# Altium schematic symbol library COM_Express.SchLib: 1 symbol
Pins are listed as number, name and electrical type; pins without a type are passive.

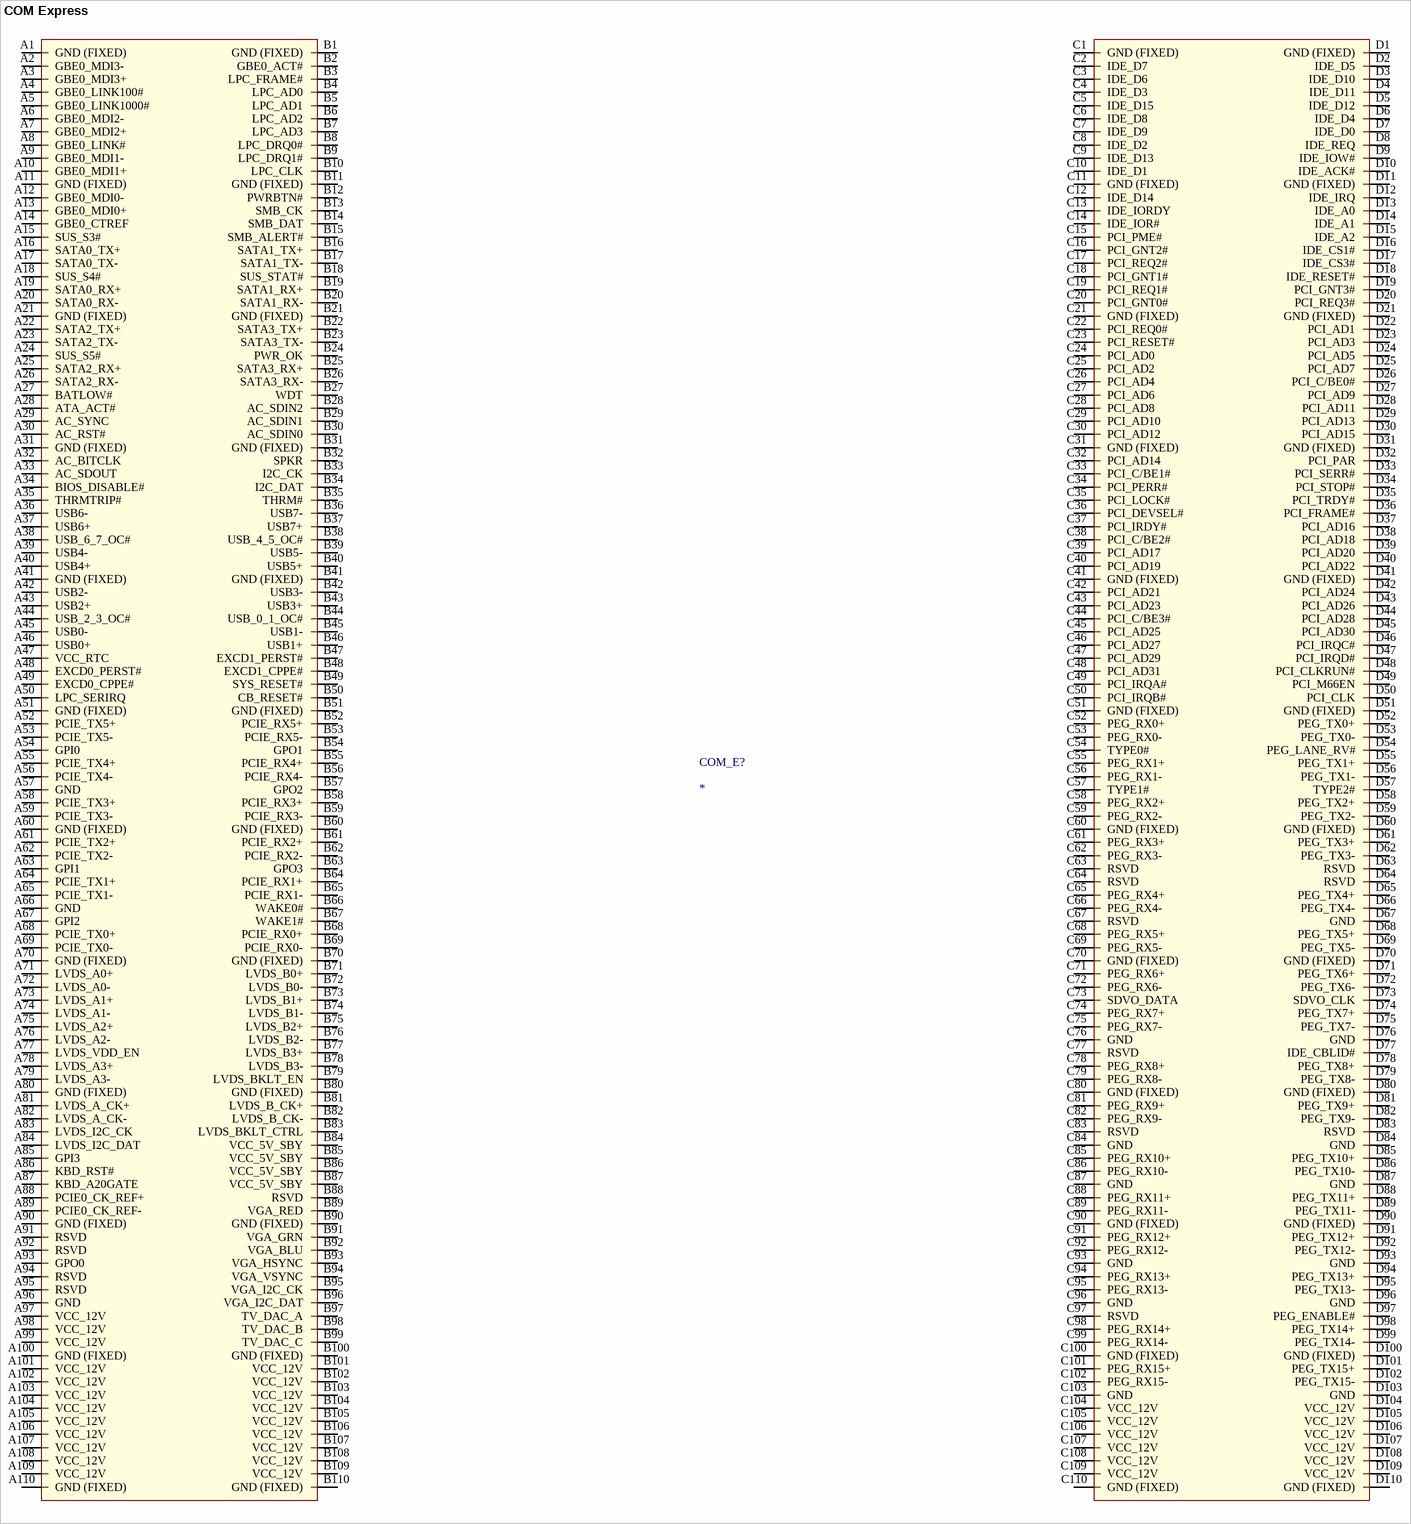
[diagram p0: symbol COM Express]

## COM Express
designator COM_E?
footprint COM Express
pins: A1 GND (FIXED), A2 GBE0_MDI3-, A3 GBE0_MDI3+, A4 GBE0_LINK100#, A5 GBE0_LINK1000#, A6 GBE0_MDI2-, A7 GBE0_MDI2+, A8 GBE0_LINK#, A9 GBE0_MDI1-, A10 GBE0_MDI1+, A11 GND (FIXED), A12 GBE0_MDI0-, A13 GBE0_MDI0+, A14 GBE0_CTREF, A15 SUS_S3#, A16 SATA0_TX+, A17 SATA0_TX-, A18 SUS_S4#, A19 SATA0_RX+, A20 SATA0_RX-, A21 GND (FIXED), A22 SATA2_TX+, A23 SATA2_TX-, A24 SUS_S5#, A25 SATA2_RX+, A26 SATA2_RX-, A27 BATLOW#, A28 ATA_ACT#, A29 AC_SYNC, A30 AC_RST#, A31 GND (FIXED), A32 AC_BITCLK, A33 AC_SDOUT, A34 BIOS_DISABLE#, A35 THRMTRIP#, A36 USB6-, A37 USB6+, A38 USB_6_7_OC#, A39 USB4-, A40 USB4+, A41 GND (FIXED), A42 USB2-, A43 USB2+, A44 USB_2_3_OC#, A45 USB0-, A46 USB0+, A47 VCC_RTC, A48 EXCD0_PERST#, A49 EXCD0_CPPE#, A50 LPC_SERIRQ, A51 GND (FIXED), A52 PCIE_TX5+, A53 PCIE_TX5-, A54 GPI0, A55 PCIE_TX4+, A56 PCIE_TX4-, A57 GND, A58 PCIE_TX3+, A59 PCIE_TX3-, A60 GND (FIXED), A61 PCIE_TX2+, A62 PCIE_TX2-, A63 GPI1, A64 PCIE_TX1+, A65 PCIE_TX1-, A66 GND, A67 GPI2, A68 PCIE_TX0+, A69 PCIE_TX0-, A70 GND (FIXED), A71 LVDS_A0+, A72 LVDS_A0-, A73 LVDS_A1+, A74 LVDS_A1-, A75 LVDS_A2+, A76 LVDS_A2-, A77 LVDS_VDD_EN, A78 LVDS_A3+, A79 LVDS_A3-, A80 GND (FIXED), A81 LVDS_A_CK+, A82 LVDS_A_CK-, A83 LVDS_I2C_CK, A84 LVDS_I2C_DAT, A85 GPI3, A86 KBD_RST#, A87 KBD_A20GATE, A88 PCIE0_CK_REF+, A89 PCIE0_CK_REF-, A90 GND (FIXED), A91 RSVD, A92 RSVD, A93 GPO0, A94 RSVD, A95 RSVD, A96 GND, A97 VCC_12V, A98 VCC_12V, A99 VCC_12V, A100 GND (FIXED), A101 VCC_12V, A102 VCC_12V, A103 VCC_12V, A104 VCC_12V, A105 VCC_12V, A106 VCC_12V, A107 VCC_12V, A108 VCC_12V, A109 VCC_12V, A110 GND (FIXED), B1 GND (FIXED), B2 GBE0_ACT#, B3 LPC_FRAME#, B4 LPC_AD0, B5 LPC_AD1, B6 LPC_AD2, B7 LPC_AD3, B8 LPC_DRQ0#, B9 LPC_DRQ1#, B10 LPC_CLK, B11 GND (FIXED), B12 PWRBTN#, B13 SMB_CK, B14 SMB_DAT, B15 SMB_ALERT#, B16 SATA1_TX+, B17 SATA1_TX-, B18 SUS_STAT#, B19 SATA1_RX+, B20 SATA1_RX-, B21 GND (FIXED), B22 SATA3_TX+, B23 SATA3_TX-, B24 PWR_OK, B25 SATA3_RX+, B26 SATA3_RX-, B27 WDT, B28 AC_SDIN2, B29 AC_SDIN1, B30 AC_SDIN0, B31 GND (FIXED), B32 SPKR, B33 I2C_CK, B34 I2C_DAT, B35 THRM#, B36 USB7-, B37 USB7+, B38 USB_4_5_OC#, B39 USB5-, B40 USB5+, B41 GND (FIXED), B42 USB3-, B43 USB3+, B44 USB_0_1_OC#, B45 USB1-, B46 USB1+, B47 EXCD1_PERST#, B48 EXCD1_CPPE#, B49 SYS_RESET#, B50 CB_RESET#, B51 GND (FIXED), B52 PCIE_RX5+, B53 PCIE_RX5-, B54 GPO1, B55 PCIE_RX4+, B56 PCIE_RX4-, B57 GPO2, B58 PCIE_RX3+, B59 PCIE_RX3-, B60 GND (FIXED), B61 PCIE_RX2+, B62 PCIE_RX2-, B63 GPO3, B64 PCIE_RX1+, B65 PCIE_RX1-, B66 WAKE0#, B67 WAKE1#, B68 PCIE_RX0+, B69 PCIE_RX0-, B70 GND (FIXED), B71 LVDS_B0+, B72 LVDS_B0-, B73 LVDS_B1+, B74 LVDS_B1-, B75 LVDS_B2+, B76 LVDS_B2-, B77 LVDS_B3+, B78 LVDS_B3-, B79 LVDS_BKLT_EN, B80 GND (FIXED), B81 LVDS_B_CK+, B82 LVDS_B_CK-, B83 LVDS_BKLT_CTRL, B84 VCC_5V_SBY, B85 VCC_5V_SBY, B86 VCC_5V_SBY, B87 VCC_5V_SBY, B88 RSVD, B89 VGA_RED, B90 GND (FIXED), B91 VGA_GRN, B92 VGA_BLU, B93 VGA_HSYNC, B94 VGA_VSYNC, B95 VGA_I2C_CK, B96 VGA_I2C_DAT, B97 TV_DAC_A, B98 TV_DAC_B, B99 TV_DAC_C, B100 GND (FIXED), B101 VCC_12V, B102 VCC_12V, B103 VCC_12V, B104 VCC_12V, B105 VCC_12V, B106 VCC_12V, B107 VCC_12V, B108 VCC_12V, B109 VCC_12V, B110 GND (FIXED), C1 GND (FIXED), C2 IDE_D7, C3 IDE_D6, C4 IDE_D3, C5 IDE_D15, C6 IDE_D8, C7 IDE_D9, C8 IDE_D2, C9 IDE_D13, C10 IDE_D1, C11 GND (FIXED), C12 IDE_D14, C13 IDE_IORDY, C14 IDE_IOR#, C15 PCI_PME#, C16 PCI_GNT2#, C17 PCI_REQ2#, C18 PCI_GNT1#, C19 PCI_REQ1#, C20 PCI_GNT0#, C21 GND (FIXED), C22 PCI_REQ0#, C23 PCI_RESET#, C24 PCI_AD0, C25 PCI_AD2, C26 PCI_AD4, C27 PCI_AD6, C28 PCI_AD8, C29 PCI_AD10, C30 PCI_AD12, C31 GND (FIXED), C32 PCI_AD14, C33 PCI_C/BE1#, C34 PCI_PERR#, C35 PCI_LOCK#, C36 PCI_DEVSEL#, C37 PCI_IRDY#, C38 PCI_C/BE2#, C39 PCI_AD17, C40 PCI_AD19, C41 GND (FIXED), C42 PCI_AD21, C43 PCI_AD23, C44 PCI_C/BE3#, C45 PCI_AD25, C46 PCI_AD27, C47 PCI_AD29, C48 PCI_AD31, C49 PCI_IRQA#, C50 PCI_IRQB#, C51 GND (FIXED), C52 PEG_RX0+, C53 PEG_RX0-, C54 TYPE0#, C55 PEG_RX1+, C56 PEG_RX1-, C57 TYPE1#, C58 PEG_RX2+, C59 PEG_RX2-, C60 GND (FIXED), C61 PEG_RX3+, C62 PEG_RX3-, C63 RSVD, C64 RSVD, C65 PEG_RX4+, C66 PEG_RX4-, C67 RSVD, C68 PEG_RX5+, C69 PEG_RX5-, C70 GND (FIXED), C71 PEG_RX6+, C72 PEG_RX6-, C73 SDVO_DATA, C74 PEG_RX7+, C75 PEG_RX7-, C76 GND, C77 RSVD, C78 PEG_RX8+, C79 PEG_RX8-, C80 GND (FIXED), C81 PEG_RX9+, C82 PEG_RX9-, C83 RSVD, C84 GND, C85 PEG_RX10+, C86 PEG_RX10-, C87 GND, C88 PEG_RX11+, C89 PEG_RX11-, C90 GND (FIXED), C91 PEG_RX12+, C92 PEG_RX12-, C93 GND, C94 PEG_RX13+, C95 PEG_RX13-, C96 GND, C97 RSVD, C98 PEG_RX14+, C99 PEG_RX14-, C100 GND (FIXED), C101 PEG_RX15+, C102 PEG_RX15-, C103 GND, C104 VCC_12V, C105 VCC_12V, C106 VCC_12V, C107 VCC_12V, C108 VCC_12V, C109 VCC_12V, C110 GND (FIXED), D1 GND (FIXED), D2 IDE_D5, D3 IDE_D10, D4 IDE_D11, D5 IDE_D12, D6 IDE_D4, D7 IDE_D0, D8 IDE_REQ, D9 IDE_IOW#, D10 IDE_ACK#, D11 GND (FIXED), D12 IDE_IRQ, D13 IDE_A0, D14 IDE_A1, D15 IDE_A2, D16 IDE_CS1#, D17 IDE_CS3#, D18 IDE_RESET#, D19 PCI_GNT3#, D20 PCI_REQ3#, D21 GND (FIXED), D22 PCI_AD1, D23 PCI_AD3, D24 PCI_AD5, D25 PCI_AD7, D26 PCI_C/BE0#, D27 PCI_AD9, D28 PCI_AD11, D29 PCI_AD13, D30 PCI_AD15, D31 GND (FIXED), D32 PCI_PAR, D33 PCI_SERR#, D34 PCI_STOP#, D35 PCI_TRDY#, D36 PCI_FRAME#, D37 PCI_AD16, D38 PCI_AD18, D39 PCI_AD20, D40 PCI_AD22, D41 GND (FIXED), D42 PCI_AD24, D43 PCI_AD26, D44 PCI_AD28, D45 PCI_AD30, D46 PCI_IRQC#, D47 PCI_IRQD#, D48 PCI_CLKRUN#, D49 PCI_M66EN, D50 PCI_CLK, D51 GND (FIXED), D52 PEG_TX0+, D53 PEG_TX0-, D54 PEG_LANE_RV#, D55 PEG_TX1+, D56 PEG_TX1-, D57 TYPE2#, D58 PEG_TX2+, D59 PEG_TX2-, D60 GND (FIXED), D61 PEG_TX3+, D62 PEG_TX3-, D63 RSVD, D64 RSVD, D65 PEG_TX4+, D66 PEG_TX4-, D67 GND, D68 PEG_TX5+, D69 PEG_TX5-, D70 GND (FIXED), D71 PEG_TX6+, D72 PEG_TX6-, D73 SDVO_CLK, D74 PEG_TX7+, D75 PEG_TX7-, D76 GND, D77 IDE_CBLID#, D78 PEG_TX8+, D79 PEG_TX8-, D80 GND (FIXED), D81 PEG_TX9+, D82 PEG_TX9-, D83 RSVD, D84 GND, D85 PEG_TX10+, D86 PEG_TX10-, D87 GND, D88 PEG_TX11+, D89 PEG_TX11-, D90 GND (FIXED), D91 PEG_TX12+, D92 PEG_TX12-, D93 GND, D94 PEG_TX13+, D95 PEG_TX13-, D96 GND, D97 PEG_ENABLE#, D98 PEG_TX14+, D99 PEG_TX14-, D100 GND (FIXED), D101 PEG_TX15+, D102 PEG_TX15-, D103 GND, D104 VCC_12V, D105 VCC_12V, D106 VCC_12V, D107 VCC_12V, D108 VCC_12V, D109 VCC_12V, D110 GND (FIXED)